# Altium footprint library DDS1.PcbLib: 136 footprints (part 7 of 9)
Each footprint in its own frame and in the unit in brackets; x right, y up, seen from the top. Pads: shape width x height; smd on the part's side, far side on the other; paste and mask are expansions set on the pad; w line width, h text height; cw(c..) or ccw(c..) is an arc to the next point about the centre after c.
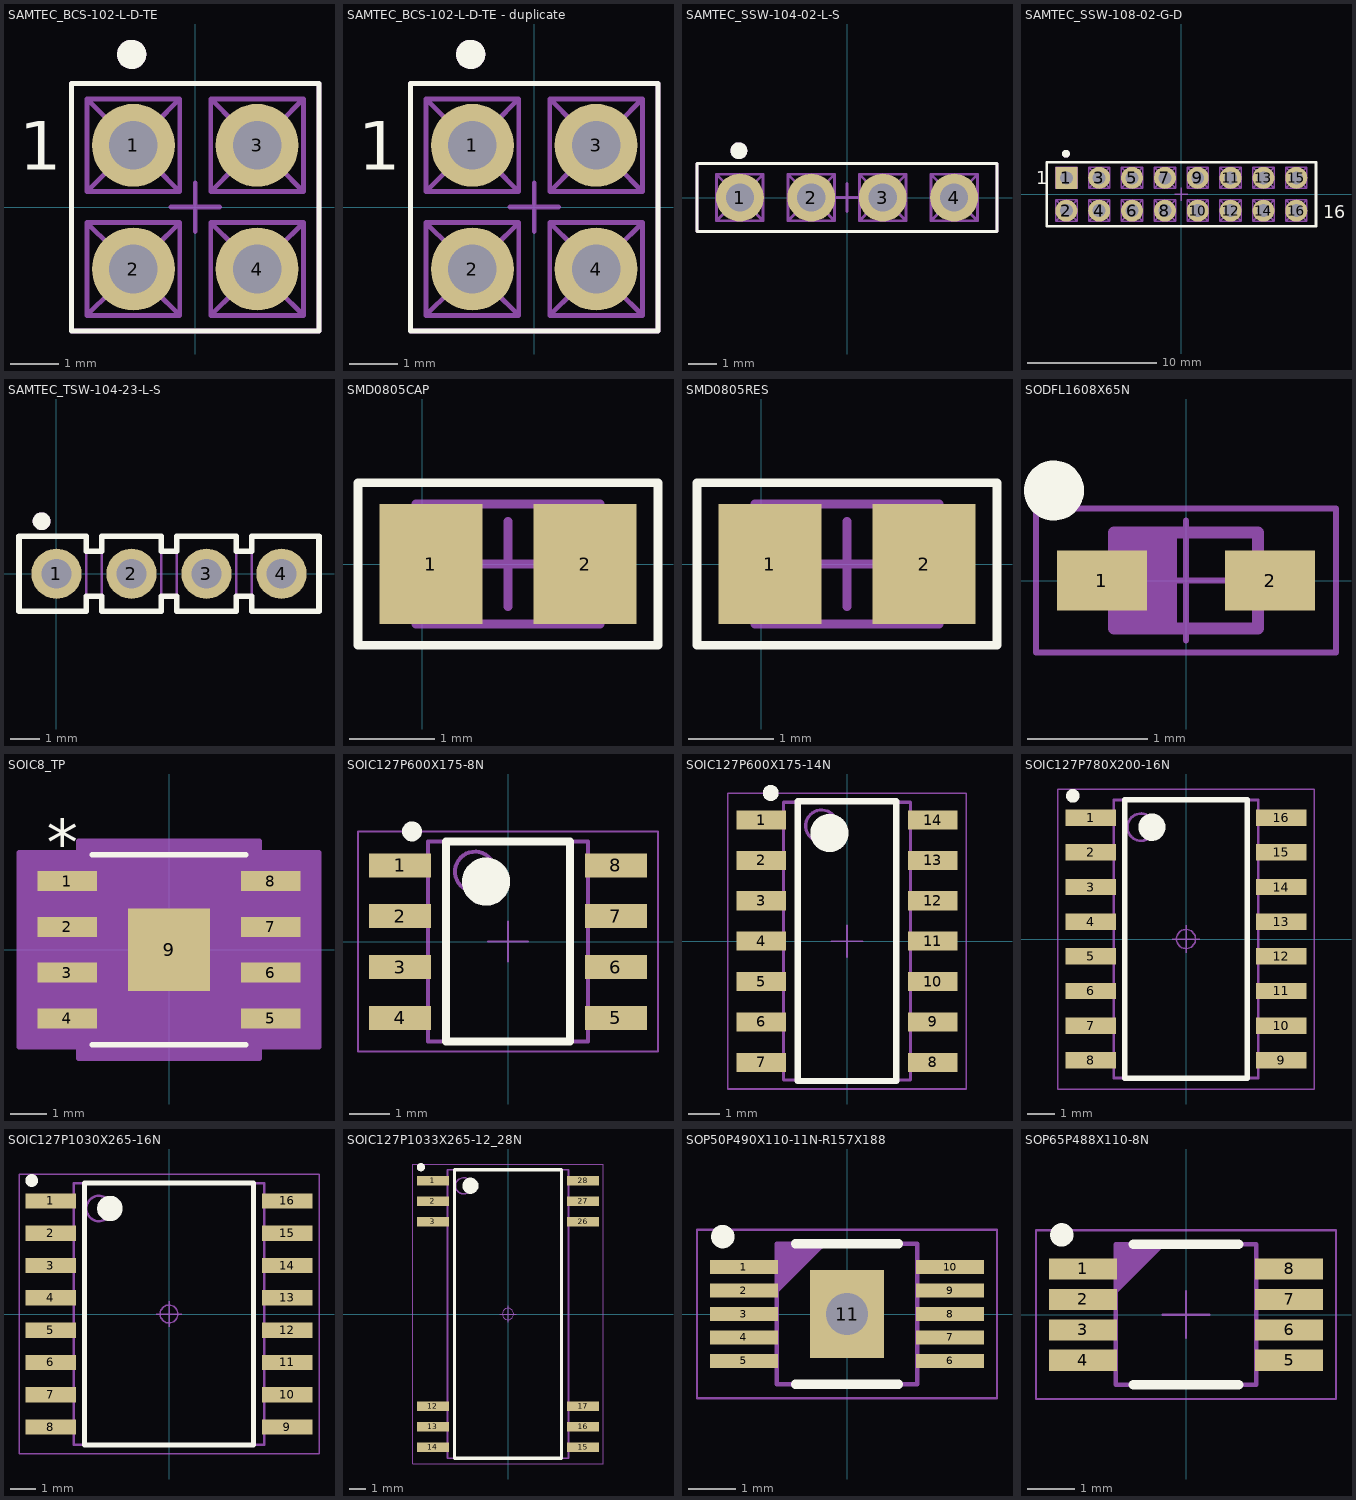
[diagram p6: the footprints below, top view; thin cyan lines are the x and y axes]

## SAMTEC_BCS-102-L-D-TE [mm] "4 Contacts - Pitch 2.54mm - Dual Row Horizontal Entry Socket"
height 7.37
pads (4):
  round 1.7 hole 1: 1(-1.27,1.27) 2(-1.27,-1.27) 3(1.27,1.27) 4(1.27,-1.27)
Top Overlay:
  circle w0.3: c-1.305,3.135 r0.15
  lines w0.1: -2.54,-2.54 -2.54,2.54 2.54,2.54 2.54,-2.54 -2.54,-2.54
  text "1" at -3.617,0.772 h1
Mechanical 8:
  lines w0.1: -1.77,-1.27 -1.27,-1.27 ; -1.77,1.27 -1.27,1.27 ; -1.27,-1.77 -1.27,-1.27 ; -1.27,-0.77 -1.27,-1.27 ; -1.27,0.77 -1.27,1.27 ; -1.27,1.77 -1.27,1.27 ; -0.77,-1.27 -1.27,-1.27 ; -0.77,1.27 -1.27,1.27 ; -0.5,0 0,0 ; 0,-0.5 0,0 ; 0,0.5 0,0 ; 0.5,0 0,0 ; 0.77,-1.27 1.27,-1.27 ; 0.77,1.27 1.27,1.27 ; 1.27,-1.77 1.27,-1.27 ; 1.27,0.77 1.27,1.27 ; 1.27,1.77 1.27,1.27 ; 1.77,-1.27 1.27,-1.27 ; 1.77,1.27 1.27,1.27
Mechanical 14:
  circle w0.3: c-1.305,3.135 r0.15
  lines w0.1: -1.71,-0.83 -1.714,-1.714 ; -1.71,1.71 -1.714,0.826 ; 0.83,-0.83 0.826,-1.714 ; 0.83,1.71 0.826,0.826 ; -2.222,-2.222 -1.714,-1.714 ; -2.222,-2.222 -2.222,-0.318 ; -2.222,-2.222 -0.318,-2.222 ; -2.222,-0.318 -1.714,-0.826 -0.826,-0.826 ; -2.222,-0.318 -0.318,-0.318 ; -2.222,0.318 -1.714,0.826 ; -2.222,0.318 -2.222,2.222 ; -2.222,0.318 -0.318,0.318 ; -2.222,2.222 -1.714,1.714 -0.826,1.714 ; -2.222,2.222 -0.318,2.222 ; -1.714,-1.714 -0.826,-1.714 ; -1.714,0.826 -0.826,0.826 ; -0.826,-1.714 -0.318,-2.222 ; -0.826,-1.714 -0.826,-0.826 ; -0.826,-0.826 -0.318,-0.318 ; -0.826,0.826 -0.318,0.318 ; -0.826,0.826 -0.826,1.714 ; -0.826,1.714 -0.318,2.222 ; -0.318,-2.222 -0.318,-0.318 ; -0.318,0.318 -0.318,2.222 ; 0.318,-2.222 0.826,-1.714 ; 0.318,-2.222 0.318,-0.318 ; 0.318,-2.222 2.222,-2.222 ; 0.318,-0.318 0.826,-0.826 1.714,-0.826 ; 0.318,-0.318 2.222,-0.318 ; 0.318,0.318 0.826,0.826 ; 0.318,0.318 0.318,2.222 ; 0.318,0.318 2.222,0.318 ; 0.318,2.222 0.826,1.714 1.714,1.714 ; 0.318,2.222 2.222,2.222 ; 0.826,-1.714 1.714,-1.714 ; 0.826,0.826 1.714,0.826 ; 1.714,-1.714 2.222,-2.222 ; 1.714,-1.714 1.714,-0.826 ; 1.714,-0.826 2.222,-0.318 ; 1.714,0.826 2.222,0.318 ; 1.714,0.826 1.714,1.714 ; 1.714,1.714 2.222,2.222 ; 2.222,-2.222 2.222,-0.318 ; 2.222,0.318 2.222,2.222 ; -2.54,-2.54 -2.54,2.54 2.54,2.54 2.54,-2.54 -2.54,-2.54
  text "1" at -3.617,0.772 h1
3D body "SAMTEC_BCS-102-L-D-TE.stp": height 7.37, standoff -3.1, extent -2.54,-2.54 2.54,2.54

## SAMTEC_BCS-102-L-D-TE - duplicate [mm] "4 Contacts - Pitch 2.54mm - Dual Row Horizontal Entry Socket"
height 7.37
pads (4):
  round 1.7 hole 1: 1(-1.27,1.27) 2(-1.27,-1.27) 3(1.27,1.27) 4(1.27,-1.27)
Top Overlay:
  circle w0.3: c-1.305,3.135 r0.15
  lines w0.1: -2.54,-2.54 2.54,-2.54 2.54,2.54 -2.54,2.54 -2.54,-2.54
  text "1" at -3.617,0.772 h1
Mechanical 8:
  lines w0.1: -1.77,-1.27 -1.27,-1.27 ; -1.77,1.27 -1.27,1.27 ; -1.27,-1.77 -1.27,-1.27 ; -1.27,-0.77 -1.27,-1.27 ; -1.27,0.77 -1.27,1.27 ; -1.27,1.77 -1.27,1.27 ; -0.77,-1.27 -1.27,-1.27 ; -0.77,1.27 -1.27,1.27 ; -0.5,0 0,0 ; 0,-0.5 0,0 ; 0,0.5 0,0 ; 0.5,0 0,0 ; 0.77,-1.27 1.27,-1.27 ; 0.77,1.27 1.27,1.27 ; 1.27,-1.77 1.27,-1.27 ; 1.27,0.77 1.27,1.27 ; 1.27,1.77 1.27,1.27 ; 1.77,-1.27 1.27,-1.27 ; 1.77,1.27 1.27,1.27
Mechanical 14:
  circle w0.3: c-1.305,3.135 r0.15
  lines w0.1: -1.71,-0.83 -1.714,-1.714 ; -1.71,1.71 -1.714,0.826 ; 0.83,-0.83 0.826,-1.714 ; 0.83,1.71 0.826,0.826 ; -2.222,-2.222 -0.318,-2.222 ; -2.222,-2.222 -2.222,-0.318 ; -2.222,-2.222 -1.714,-1.714 ; -2.222,-0.318 -0.318,-0.318 ; -2.222,-0.318 -1.714,-0.826 -0.826,-0.826 ; -2.222,0.318 -0.318,0.318 ; -2.222,0.318 -2.222,2.222 ; -2.222,0.318 -1.714,0.826 ; -2.222,2.222 -0.318,2.222 ; -2.222,2.222 -1.714,1.714 -0.826,1.714 ; -1.714,-1.714 -0.826,-1.714 ; -1.714,0.826 -0.826,0.826 ; -0.826,-1.714 -0.826,-0.826 ; -0.826,-1.714 -0.318,-2.222 ; -0.826,-0.826 -0.318,-0.318 ; -0.826,0.826 -0.826,1.714 ; -0.826,0.826 -0.318,0.318 ; -0.826,1.714 -0.318,2.222 ; -0.318,-2.222 -0.318,-0.318 ; -0.318,0.318 -0.318,2.222 ; 0.318,-2.222 2.222,-2.222 ; 0.318,-2.222 0.318,-0.318 ; 0.318,-2.222 0.826,-1.714 ; 0.318,-0.318 2.222,-0.318 ; 0.318,-0.318 0.826,-0.826 1.714,-0.826 ; 0.318,0.318 2.222,0.318 ; 0.318,0.318 0.318,2.222 ; 0.318,0.318 0.826,0.826 ; 0.318,2.222 2.222,2.222 ; 0.318,2.222 0.826,1.714 1.714,1.714 ; 0.826,-1.714 1.714,-1.714 ; 0.826,0.826 1.714,0.826 ; 1.714,-1.714 1.714,-0.826 ; 1.714,-1.714 2.222,-2.222 ; 1.714,-0.826 2.222,-0.318 ; 1.714,0.826 1.714,1.714 ; 1.714,0.826 2.222,0.318 ; 1.714,1.714 2.222,2.222 ; 2.222,-2.222 2.222,-0.318 ; 2.222,0.318 2.222,2.222 ; -2.54,-2.54 2.54,-2.54 2.54,2.54 -2.54,2.54 -2.54,-2.54
  text "1" at -3.617,0.772 h1
3D body "SAMTEC_BCS-102-L-D-TE.stp": height 7.37, standoff -3.1, extent -2.54,-2.54 2.54,2.54

## SAMTEC_SSW-104-02-L-S [mm] "4 Contacts, Pitch 2.54mm - Top Entry, Single Row, Through Mount Straigh Socket"
height 8.5
pads (4):
  round 1.7 hole 1: 1(-3.81,0) 2(-1.27,0) 3(1.27,0) 4(3.81,0)
Top Overlay:
  circle w0.3: c-3.845,1.665 r0.15
  lines w0.1: -5.334,-1.206 5.334,-1.206 5.334,1.206 -5.334,1.206 -5.334,-1.206
Mechanical 8:
  lines w0.1: -4.31,0 -3.81,0 ; -3.81,-0.5 -3.81,0 ; -3.81,0.5 -3.81,0 ; -3.31,0 -3.81,0 ; -1.77,0 -1.27,0 ; -1.27,-0.5 -1.27,0 ; -1.27,0.5 -1.27,0 ; -0.77,0 -1.27,0 ; -0.5,0 0,0 ; 0,-0.5 0,0 ; 0,0.5 0,0 ; 0.5,0 0,0 ; 0.77,0 1.27,0 ; 1.27,-0.5 1.27,0 ; 1.27,0.5 1.27,0 ; 1.77,0 1.27,0 ; 3.31,0 3.81,0 ; 3.81,-0.5 3.81,0 ; 3.81,0.5 3.81,0 ; 4.31,0 3.81,0
Mechanical 14:
  circle w0.3: c-3.845,1.665 r0.15
  lines w0.1: -4.636,-0.826 -2.985,-0.826 ; -4.636,-0.826 -4.636,0.826 ; -4.636,-0.826 -4.204,-0.394 ; -4.636,0.826 -2.985,0.826 ; -4.636,0.826 -4.204,0.394 ; -4.204,-0.394 -3.416,-0.394 ; -4.204,-0.394 -4.204,0.394 ; -4.204,0.394 -3.416,0.394 ; -3.416,-0.394 -3.416,0.394 ; -3.416,-0.394 -2.985,-0.826 ; -3.416,0.394 -2.985,0.826 ; -2.985,-0.826 -2.985,0.826 ; -2.095,-0.826 -0.445,-0.826 ; -2.095,-0.826 -2.095,0.826 ; -2.095,-0.826 -1.664,-0.394 ; -2.095,0.826 -0.445,0.826 ; -2.095,0.826 -1.664,0.394 ; -1.664,-0.394 -0.876,-0.394 ; -1.664,-0.394 -1.664,0.394 ; -1.664,0.394 -0.876,0.394 ; -0.876,-0.394 -0.876,0.394 ; -0.876,-0.394 -0.445,-0.826 ; -0.876,0.394 -0.445,0.826 ; -0.445,-0.826 -0.445,0.826 ; 0.445,-0.826 2.095,-0.826 ; 0.445,-0.826 0.445,0.826 ; 0.445,-0.826 0.876,-0.394 ; 0.445,0.826 2.095,0.826 ; 0.445,0.826 0.876,0.394 ; 0.876,-0.394 1.664,-0.394 ; 0.876,-0.394 0.876,0.394 ; 0.876,0.394 1.664,0.394 ; 1.664,-0.394 1.664,0.394 ; 1.664,-0.394 2.095,-0.826 ; 1.664,0.394 2.095,0.826 ; 2.095,-0.826 2.095,0.826 ; 2.985,-0.826 4.636,-0.826 ; 2.985,-0.826 2.985,0.826 ; 2.985,-0.826 3.416,-0.394 ; 2.985,0.826 4.636,0.826 ; 2.985,0.826 3.416,0.394 ; 3.416,-0.394 4.204,-0.394 ; 3.416,-0.394 3.416,0.394 ; 3.416,0.394 4.204,0.394 ; 4.204,-0.394 4.204,0.394 ; 4.204,-0.394 4.636,-0.826 ; 4.204,0.394 4.636,0.826 ; 4.636,-0.826 4.636,0.826 ; -5.334,-1.206 5.334,-1.206 5.334,1.206 -5.334,1.206 -5.334,-1.206
3D body "SAMTEC_SSW-104-02-L-S.stp": height 8.51, standoff -4.93, extent -5.334,-1.206 5.334,1.207

## SAMTEC_SSW-108-02-G-D [mm] "8 Contacts, Pitch 2.54mm - Top Entry, Dual Row, Through Mount Straigh Socket"
height 8.5
pads (16):
  rect 1.7x1.7 hole 1: 1(-8.89,1.27)
  round 1.7 hole 1: 2(-8.89,-1.27) 3(-6.35,1.27) 4(-6.35,-1.27) 5(-3.81,1.27) 6(-3.81,-1.27) 7(-1.27,1.27) 8(-1.27,-1.27) 9(1.27,1.27) 10(1.27,-1.27) 11(3.81,1.27) 12(3.81,-1.27) 13(6.35,1.27) 14(6.35,-1.27) 15(8.89,1.27) 16(8.89,-1.27)
Top Overlay:
  circle w0.3: c-8.925,3.135 r0.15
  lines w0.2: -10.414,-2.477 10.414,-2.477 10.414,2.477 -10.414,2.477 -10.414,-2.477
  text "16" at 10.96,-1.85 h1
  text "1" at -11.237,0.772 h1
Mechanical 8:
  lines w0.1: -9.39,-1.27 -8.89,-1.27 ; -9.39,1.27 -8.89,1.27 ; -8.89,-1.77 -8.89,-1.27 ; -8.89,-0.77 -8.89,-1.27 ; -8.89,0.77 -8.89,1.27 ; -8.89,1.77 -8.89,1.27 ; -8.39,-1.27 -8.89,-1.27 ; -8.39,1.27 -8.89,1.27 ; -6.85,-1.27 -6.35,-1.27 ; -6.85,1.27 -6.35,1.27 ; -6.35,-1.77 -6.35,-1.27 ; -6.35,-0.77 -6.35,-1.27 ; -6.35,0.77 -6.35,1.27 ; -6.35,1.77 -6.35,1.27 ; -5.85,-1.27 -6.35,-1.27 ; -5.85,1.27 -6.35,1.27 ; -4.31,-1.27 -3.81,-1.27 ; -4.31,1.27 -3.81,1.27 ; -3.81,-1.77 -3.81,-1.27 ; -3.81,-0.77 -3.81,-1.27 ; -3.81,0.77 -3.81,1.27 ; -3.81,1.77 -3.81,1.27 ; -3.31,-1.27 -3.81,-1.27 ; -3.31,1.27 -3.81,1.27 ; -1.77,-1.27 -1.27,-1.27 ; -1.77,1.27 -1.27,1.27 ; -1.27,-1.77 -1.27,-1.27 ; -1.27,-0.77 -1.27,-1.27 ; -1.27,0.77 -1.27,1.27 ; -1.27,1.77 -1.27,1.27 ; -0.77,-1.27 -1.27,-1.27 ; -0.77,1.27 -1.27,1.27 ; -0.5,0 0,0 ; 0,-0.5 0,0 ; 0,0.5 0,0 ; 0.5,0 0,0 ; 0.77,-1.27 1.27,-1.27 ; 0.77,1.27 1.27,1.27 ; 1.27,-1.77 1.27,-1.27 ; 1.27,-0.77 1.27,-1.27 ; 1.27,0.77 1.27,1.27 ; 1.27,1.77 1.27,1.27 ; 1.77,-1.27 1.27,-1.27 ; 1.77,1.27 1.27,1.27 ; 3.31,-1.27 3.81,-1.27 ; 3.31,1.27 3.81,1.27 ; 3.81,-1.77 3.81,-1.27 ; 3.81,-0.77 3.81,-1.27 ; 3.81,0.77 3.81,1.27 ; 3.81,1.77 3.81,1.27 ; 4.31,-1.27 3.81,-1.27 ; 4.31,1.27 3.81,1.27 ; 5.85,-1.27 6.35,-1.27 ; 5.85,1.27 6.35,1.27 ; 6.35,-1.77 6.35,-1.27 ; 6.35,-0.77 6.35,-1.27 ; 6.35,0.77 6.35,1.27 ; 6.35,1.77 6.35,1.27 ; 6.85,-1.27 6.35,-1.27 ; 6.85,1.27 6.35,1.27 ; 8.39,-1.27 8.89,-1.27 ; 8.39,1.27 8.89,1.27 ; 8.89,-1.77 8.89,-1.27 ; 8.89,-0.77 8.89,-1.27 ; 8.89,0.77 8.89,1.27 ; 8.89,1.77 8.89,1.27 ; 9.39,-1.27 8.89,-1.27 ; 9.39,1.27 8.89,1.27
Mechanical 14:
  drawing of 197 lines, arcs and shapes, not listed
  text "16" at 10.96,-1.85 h1
  text "1" at -11.237,0.772 h1
3D body "SAMTEC_SSW-108-02-G-D.stp": height 8.51, standoff -4.93, extent -10.414,-2.476 10.414,2.477

## SAMTEC_TSW-104-23-L-S [mm] "4 Contacts - Pitch 2.54mm - Single Row  Through Mount Straigh Header (Post Lead 5.84mm, Tail Lead 2.92mm, Insulator 2.54mm)"
height 8.38
pads (4):
  round 1.7 hole 1: 1(0,0) 2(2.54,0) 3(5.08,0) 4(7.62,0)
Top Overlay:
  circle w0.3: c-0.508,1.778 r0.15
  lines w0.2: 6.087,-0.762 6.613,-0.762 ; 6.087,-0.762 6.613,-0.762 ; 6.087,-0.762 6.087,-1.27 4.073,-1.27 4.073,-0.762 3.547,-0.762 3.547,-1.27 1.533,-1.27 1.533,-0.762 1.007,-0.762 1.007,-1.27 -1.27,-1.27 -1.27,1.27 1.007,1.27 1.007,0.762 1.533,0.762 1.533,1.27 3.547,1.27 3.547,0.762 4.073,0.762 4.073,1.27 6.087,1.27 6.087,0.762 ; 6.087,0.762 6.613,0.762 ; 6.087,0.762 6.613,0.762 ; 6.613,-0.762 6.613,-1.27 8.89,-1.27 8.89,1.27 6.613,1.27 6.613,0.762
Mechanical 8:
  lines w0.1: -0.5,0 0,0 ; 0,-0.5 0,0 ; 0,0.5 0,0 ; 0.5,0 0,0 ; 2.04,0 2.54,0 ; 2.54,-0.5 2.54,0 ; 2.54,0.5 2.54,0 ; 3.04,0 2.54,0 ; 4.58,0 5.08,0 ; 5.08,-0.5 5.08,0 ; 5.08,0.5 5.08,0 ; 5.58,0 5.08,0 ; 7.12,0 7.62,0 ; 7.62,-0.5 7.62,0 ; 7.62,0.5 7.62,0 ; 8.12,0 7.62,0
Mechanical 14:
  circle w0.3: c-0.508,1.778 r0.15
  lines w0.1: 1.007,-0.762 1.533,-0.762 ; 1.007,0.762 1.533,0.762 ; 3.547,-0.762 4.073,-0.762 ; 3.547,0.762 4.073,0.762 ; -1.27,-1.27 1.007,-1.27 1.007,1.27 -1.27,1.27 -1.27,-1.27 ; -0.317,-0.318 0.318,-0.318 0.317,0.317 -0.318,0.317 -0.317,-0.318 ; 1.533,-1.27 1.533,1.27 3.547,1.27 3.547,-1.27 1.533,-1.27 ; 2.223,-0.318 2.858,-0.318 2.857,0.317 2.222,0.317 2.223,-0.318 ; 4.073,-1.27 6.087,-1.27 6.087,1.27 4.073,1.27 4.073,-1.27 ; 4.763,-0.318 5.398,-0.318 5.397,0.317 4.763,0.317 4.763,-0.318 ; 6.087,-0.762 6.613,-0.762 6.087,-0.762 ; 6.087,0.762 6.613,0.762 6.087,0.762 ; 6.613,-1.27 8.89,-1.27 8.89,1.27 6.613,1.27 6.613,-1.27 ; 7.303,-0.318 7.938,-0.318 7.938,0.317 7.303,0.317 7.303,-0.318
3D body "SAMTEC_TSW-104-23-L-S.stp": height 8.38, standoff -2.92, extent -1.27,-1.27 8.89,1.27

## SMD0805CAP [mm]
pads (2):
  rect 1.2x1.4 smd: 1(0.102,0.002) 2(1.902,0.002)
Top Overlay:
  lines w0.1: -0.748,-0.948 -0.748,0.952 2.752,0.952 2.752,-0.948 -0.748,-0.948
Mechanical 13:
  lines w0.1: -0.073,-0.698 2.077,-0.698 2.077,0.702 -0.073,0.702 -0.073,-0.698
Mechanical 15:
  lines w0.1: 0.502,0.002 1.502,0.002 ; 1.002,-0.498 1.002,0.502
3D body "CAPC2012X90N.stp": height 0.9, standoff 0, extent -0.025,-0.675 2.075,0.675

## SMD0805RES [mm]
pads (2):
  rect 1.2x1.4 smd: 1(0.102,0.002) 2(1.902,0.002)
Top Overlay:
  lines w0.1: -0.748,-0.948 -0.748,0.952 2.752,0.952 2.752,-0.948 -0.748,-0.948
Mechanical 13:
  lines w0.1: -0.073,-0.698 2.077,-0.698 2.077,0.702 -0.073,0.702 -0.073,-0.698
Mechanical 15:
  lines w0.1: 0.502,0.002 1.502,0.002 ; 1.002,-0.498 1.002,0.502
3D body "RES0805.STEP": height 0.51, standoff 0, extent 0,-0.627 2.004,0.627

## SODFL1608X65N [mm] "Ultra Small Outline Diode Flat Lead (SOD-523), Body; 1.2mm L X 0.8mm W X 0.65mm H, IPC Medium Density"
height 0.65
pads (2):
  rect 0.75x0.5 smd: 1(-0.7,0) 2(0.7,0)
Top Overlay:
  circle w0.25: c-1.1,0.75 r0.125
Mechanical 14:
  lines w0.1: -0.5,-0.4 -0.5,0.4 ; -0.425,-0.4 -0.425,0.4 ; -0.35,-0.4 -0.35,0.4 ; -0.275,-0.4 -0.275,0.4 ; -0.2,0.4 -0.2,-0.4 -0.175,-0.4 ; -0.125,-0.4 -0.125,0.4 ; -0.6,-0.4 -0.6,0.4 0.6,0.4 0.6,-0.4 -0.6,-0.4
Mechanical 15:
  lines w0.05: -0.5,0 0.5,0 ; 0,-0.5 0,0.5 ; -1.25,-0.6 -1.25,0.6 1.25,0.6 1.25,-0.6 -1.25,-0.6
3D body "SODFL1608X65N.stp": height 0.65, standoff 0, extent -0.825,-0.425 0.825,0.425

## SOIC8_TP [mil] "SOIC8_1.27pitch + expPad"
pads (9):
  rect 65.15x21.97 smd paste+0 mask+0: 1(-111.08,75) 2(-111.08,25) 3(-111.08,-25) 4(-111.08,-75) 5(111.08,-75) 6(111.08,-25) 7(111.08,25) 8(111.08,75)
  rect 90x90 smd paste+0 mask+0: 9(0,0)
Top Overlay:
  lines w6: -83.5,-103.5 83.5,-103.5 ; -83.5,103.5 83.5,103.5
  text "*" at -133.58,91.97 h50
Mechanical 13:
  lines w0: -12,98.5 ccw(c0,98.5) 12,98.5
  lines w1: -122,-85 -122,-65 -78.5,-65 -78.5,-85 -122,-85 ; -122,-35 -122,-15 -78.5,-15 -78.5,-35 -122,-35 ; -122,15 -122,35 -78.5,35 -78.5,15 -122,15 ; -122,65 -122,85 -78.5,85 -78.5,65 -122,65 ; -78.5,-98.5 78.5,-98.5 78.5,98.5 -78.5,98.5 -78.5,-98.5 ; 78.5,-85 78.5,-65 122,-65 122,-85 78.5,-85 ; 78.5,-35 78.5,-15 122,-15 122,-35 78.5,-35 ; 78.5,15 78.5,35 122,35 122,15 78.5,15 ; 78.5,65 78.5,85 122,85 122,65 78.5,65
  text "*" at -76,45.5 h50
Mechanical 15:
  region: -98.5,-105.98 -163.65,-105.98 -163.65,105.98 -98.5,105.98 -98.5,118.5 98.5,118.5 98.5,105.98 163.65,105.98 163.65,-105.98 98.5,-105.98 98.5,-118.5 -98.5,-118.5
  lines w6: -163.65,-105.98 -163.65,105.98 -98.5,105.98 -98.5,118.5 98.5,118.5 98.5,105.98 163.65,105.98 163.65,-105.98 98.5,-105.98 98.5,-118.5 -98.5,-118.5 -98.5,-105.98 -163.65,-105.98
3D body "RD_8_1_ADI.step": height 69.09, standoff 0, extent -122.01,-98.5 122.01,98.5

## SOIC127P600X175-8N [mm] "SOIC 8, Pitch 1.27mm - Body 4x5mm, IPC Medium Density"
height 1.75
pads (8):
  rect 1.55x0.6 smd: 1(-2.7,1.905) 2(-2.7,0.635) 3(-2.7,-0.635) 4(-2.7,-1.905) 5(2.7,-1.905) 6(2.7,-0.635) 7(2.7,0.635) 8(2.7,1.905)
Top Overlay:
  circle w0.6: c-0.55,1.5 r0.3
  circle w0.25: c-2.4,2.755 r0.125
  lines w0.2: -1.55,-2.5 1.55,-2.5 1.55,2.5 -1.55,2.5 -1.55,-2.5
Mechanical 14:
  circle w0.1: c-0.825,1.75 r0.5
  lines w0.1: -2,-2.5 2,-2.5 2,2.5 -2,2.5 -2,-2.5
Mechanical 15:
  lines w0.05: -0.5,0 0.5,0 ; 0,-0.5 0,0.5 ; -3.75,-2.75 3.75,-2.75 3.75,2.75 -3.75,2.75 -3.75,-2.75
3D body "SOIC127P600X175-8N.stp": height 1.75, standoff 0, extent -3.1,-2.5 3.1,2.5

## SOIC127P600X175-14N [mm] "SOIC 14, Pitch 1.27mm - Body 4x8.75mm, IPC Medium Density"
height 1.75
pads (14):
  rect 1.55x0.6 smd: 1(-2.7,3.81) 2(-2.7,2.54) 3(-2.7,1.27) 4(-2.7,0) 5(-2.7,-1.27) 6(-2.7,-2.54) 7(-2.7,-3.81) 8(2.7,-3.81) 9(2.7,-2.54) 10(2.7,-1.27) 11(2.7,0) 12(2.7,1.27) 13(2.7,2.54) 14(2.7,3.81)
Top Overlay:
  circle w0.6: c-0.55,3.4 r0.3
  circle w0.25: c-2.4,4.66 r0.125
  lines w0.2: -1.55,-4.4 1.55,-4.4 1.55,4.4 -1.55,4.4 -1.55,-4.4
Mechanical 14:
  circle w0.1: c-0.8,3.625 r0.5
  lines w0.1: -2,-4.37 2,-4.37 2,4.37 -2,4.37 -2,-4.37
Mechanical 15:
  lines w0.05: -0.5,0 0.5,0 ; 0,-0.5 0,0.5 ; -3.75,-4.65 3.75,-4.65 3.75,4.65 -3.75,4.65 -3.75,-4.65
3D body "SOIC127P600X175-14N.stp": height 1.75, standoff 0, extent -3.1,-4.375 3.1,4.375

## SOIC127P780X200-16N [mm] "SOIC, 1.27mm Pitch; 16 Pin, 5.30mm W X 10.20mm L X 2.00mm H body, IPC Medium Density"
height 2
pads (16):
  rect 1.85x0.6 smd: 1(-3.5,4.445) 2(-3.5,3.175) 3(-3.5,1.905) 4(-3.5,0.635) 5(-3.5,-0.635) 6(-3.5,-1.905) 7(-3.5,-3.175) 8(-3.5,-4.445) 9(3.5,-4.445) 10(3.5,-3.175) 11(3.5,-1.905) 12(3.5,-0.635) 13(3.5,0.635) 14(3.5,1.905) 15(3.5,3.175) 16(3.5,4.445)
Top Overlay:
  circle w0.25: c-4.15,5.25 r0.125
  circle w0.5: c-1.25,4.1 r0.25
  lines w0.2: -2.25,-5.1 -2.25,5.1 2.25,5.1 2.25,-5.1 -2.25,-5.1
Mechanical 14:
  circle w0.1: c-1.65,4.1 r0.5
  lines w0.1: -2.65,-5.1 -2.65,5.1 2.65,5.1 2.65,-5.1 -2.65,-5.1
Mechanical 15:
  circle w0.05: c0,0 r0.35
  lines w0.05: -0.5,0 0.5,0 ; 0,-0.5 0,0.5 ; -4.7,-5.5 -4.7,5.5 4.7,5.5 4.7,-5.5 -4.7,-5.5
3D body "SOIC127P780X200-16N.stp": height 2, standoff 0, extent -3.9,-5.17 3.9,5.03

## SOIC127P1030X265-16N [mm] "SOIC 16, Pitch 1.27mm - Body 7.5x10.3mm, IPC Medium Density"
height 2.65
pads (16):
  rect 2x0.6 smd: 1(-4.65,4.445) 2(-4.65,3.175) 3(-4.65,1.905) 4(-4.65,0.635) 5(-4.65,-0.635) 6(-4.65,-1.905) 7(-4.65,-3.175) 8(-4.65,-4.445) 9(4.65,-4.445) 10(4.65,-3.175) 11(4.65,-1.905) 12(4.65,-0.635) 13(4.65,0.635) 14(4.65,1.905) 15(4.65,3.175) 16(4.65,4.445)
Top Overlay:
  circle w0.5: c-2.325,4.15 r0.25
  circle w0.25: c-5.4,5.25 r0.125
  lines w0.2: -3.325,-5.15 3.325,-5.15 3.325,5.15 -3.325,5.15 -3.325,-5.15
Mechanical 14:
  circle w0.1: c-2.75,4.15 r0.5
  lines w0.1: -3.75,-5.15 3.75,-5.15 3.75,5.15 -3.75,5.15 -3.75,-5.15
Mechanical 15:
  circle w0.05: c0,0 r0.35
  lines w0.05: -0.5,0 0.5,0 ; 0,-0.5 0,0.5 ; -5.9,-5.5 5.9,-5.5 5.9,5.5 -5.9,5.5 -5.9,-5.5
3D body "SOIC127P1030X265-16N.stp": height 1.68, standoff 0, extent -5.18,-5.25 5.18,5.25

## SOIC127P1033X265-12_28N [mm] "SOIC, Pitch 1.27mm; 12 Pin of 28, 7.50mm W X 17.90mm L X 2.65mm H body, IPC Medium Density"
height 2.65
pads (12):
  rect 2x0.6 smd: 1(-4.65,8.255) 2(-4.65,6.985) 3(-4.65,5.715) 12(-4.65,-5.715) 13(-4.65,-6.985) 14(-4.65,-8.255) 15(4.65,-8.255) 16(4.65,-6.985) 17(4.65,-5.715) 26(4.65,5.715) 27(4.65,6.985) 28(4.65,8.255)
Top Overlay:
  circle w0.25: c-5.4,9.1 r0.125
  circle w0.5: c-2.325,7.95 r0.25
  lines w0.2: -3.325,-8.95 -3.325,8.95 3.325,8.95 3.325,-8.95 -3.325,-8.95
Mechanical 14:
  circle w0.1: c-2.75,7.95 r0.5
  lines w0.1: -3.75,-8.95 -3.75,8.95 3.75,8.95 3.75,-8.95 -3.75,-8.95
Mechanical 15:
  circle w0.05: c0,0 r0.35
  lines w0.05: -0.5,0 0.5,0 ; 0,-0.5 0,0.5 ; -5.9,-9.3 -5.9,9.3 5.9,9.3 5.9,-9.3 -5.9,-9.3
3D body "SOIC127P1033X265-12_28N.stp": height 1.68, standoff 0, extent -5.18,-9.05 5.18,9.05

## SOP50P490X110-11N-R157X188 [mm] "SOP, 0.50mm, pitch; 10 pin, 3.00mm W X 3.00mm L X 1.10mm H body (w/thermal tab  1.57 X 1.88 mm), IPC Medium Density"
height 1.1
pads (11):
  rect 1.45x0.3 smd: 1(-2.2,1) 2(-2.2,0.5) 3(-2.2,0) 4(-2.2,-0.5) 5(-2.2,-1) 6(2.2,-1) 7(2.2,-0.5) 8(2.2,0) 9(2.2,0.5) 10(2.2,1)
  rect 1.57x1.88 hole 0.9: 11(0,0)
Top Overlay:
  circle w0.25: c-2.65,1.65 r0.125
  lines w0.2: -1.1,-1.5 1.1,-1.5 ; -1.1,1.5 1.1,1.5
Mechanical 14:
  lines w0.1: -1.5,0.5 -0.5,1.5 ; -1.5,0.6 -0.6,1.5 ; -1.5,0.7 -0.7,1.5 ; -1.5,0.8 -0.8,1.5 ; -1.5,0.9 -0.9,1.5 ; -1.5,1 -1,1.5 ; -1.5,1.1 -1.1,1.5 ; -1.5,1.2 -1.2,1.5 ; -1.5,1.3 -1.3,1.5 ; -1.5,1.4 -1.4,1.5 ; -1.5,-1.5 1.5,-1.5 1.5,1.5 -1.5,1.5 -1.5,-1.5
Mechanical 15:
  circle w0.05: c0,0 r0.35
  lines w0.05: -0.5,0 0.5,0 ; 0,-0.5 0,0.5 ; -3.2,-1.8 -3.2,1.8 3.2,1.8 3.2,-1.8 -3.2,-1.8
3D body "SOP50P490X110-11N-R155X185.stp": height 1.1, standoff 0, extent -2.45,-1.55 2.45,1.55

## SOP65P488X110-8N [mm] "SOP, 8-Leads, Body 3x3mm (max), Pitch 0.65mm, IPC Medium Density"
height 1.1
pads (8):
  rect 1.45x0.45 smd: 1(-2.2,0.975) 2(-2.2,0.325) 3(-2.2,-0.325) 4(-2.2,-0.975) 5(2.2,-0.975) 6(2.2,-0.325) 7(2.2,0.325) 8(2.2,0.975)
Top Overlay:
  circle w0.25: c-2.65,1.7 r0.125
  lines w0.2: -1.125,-1.5 1.125,-1.5 ; -1.125,1.5 1.125,1.5
Mechanical 14:
  lines w0.1: -1.5,0.5 -0.5,1.5 ; -1.5,0.6 -0.6,1.5 ; -1.5,0.7 -0.7,1.5 ; -1.5,0.8 -0.8,1.5 ; -1.5,0.9 -0.9,1.5 ; -1.5,1 -1,1.5 ; -1.5,1.1 -1.1,1.5 ; -1.5,1.2 -1.2,1.5 ; -1.5,1.3 -1.3,1.5 ; -1.5,1.4 -1.4,1.5 ; -1.5,-1.5 1.5,-1.5 1.5,1.5 -1.5,1.5 -1.5,-1.5
Mechanical 15:
  lines w0.05: -0.5,0 0.5,0 ; 0,-0.5 0,0.5 ; -3.2,-1.8 -3.2,1.8 3.2,1.8 3.2,-1.8 -3.2,-1.8
3D body "SOP65P488X110-8N.stp": height 1.1, standoff 0, extent -2.45,-1.55 2.45,1.55